# EAGLE library part TC2030-IDC-FP (library TC2030-IDC)
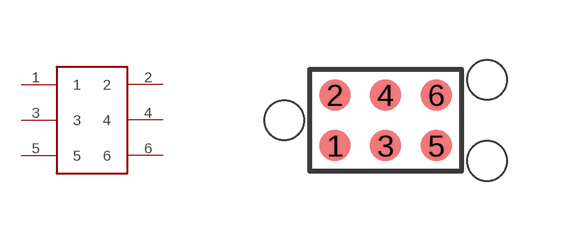
[diagram p0: symbol with the pads of TC2030-IDC-FP; footprint TC2030-IDC-FP]

Designator prefix J

## TC2030-IDC-FP  [TC2030-IDC-FP]
1  1  pas
2  2  pas
3  3  pas
4  4  pas
5  5  pas
6  6  pas

## Footprint TC2030-IDC-FP (pad centres in mm)
smd 0.787 x 0.787: 1 -1.27,-0.635; 2 -1.27,0.635; 3 0,-0.635; 4 0,0.635; 5 1.27,-0.635; 6 1.27,0.635
hole 0.993 at 2.54,-1.016
hole 0.993 at 2.54,1.016
hole 0.993 at -2.54,0